# Altium integrated library Infineon_Power_MOSFET.IntLib: 1448 symbols (part 27 of 47)
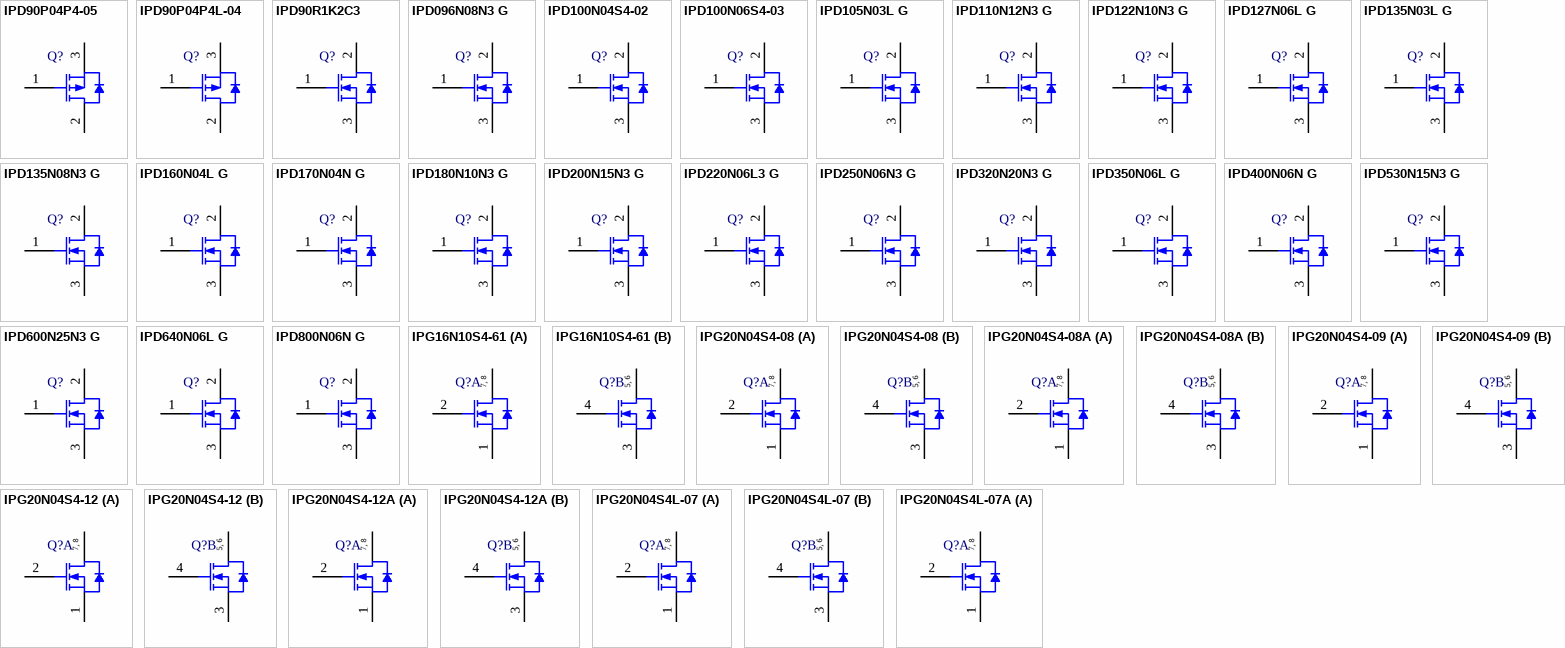
[diagram p63: symbols IPD90P04P4-05 to IPG20N04S4L-07A]

## IPD100N04S4-02
designator Q?
OptiMOS-T2 Power-Transistor, 40 V VDS, 100 A ID, PG-TO252-3-313, Reel, Green; Manufacturer: Infineon; PartNumber: IPD100N04S4-02; Green: TRUE; ID (max): 100 A; IDpuls (max): 400 A; Ptot (max): 150 W; QG: 91 nC; RDS (on) (max) (@10V): 2 mOhm; RthJC (max): 1 K/W; VDS (max): 40 V; VGS(th) (max): 4 V; VGS(th) (min): 2 V; DatasheetVersion: Rev. 1.0; PackageVersion: Oct-10; PackageReference: PG-TO252-3-313; PackageDescription: 3-Pin Plastic (Green) Transistor Single Outline Package, 6.5 x 6.12 mm Body, 2.28 mm Pitch; Supplier 1: Mouser; Supplier Part Number 1: 726-IPD100N04S4-02; Supplier 2: Digi-Key; Supplier Part Number 2: IPD100N04S4-02-ND; Halogen-free: TRUE; Packing: Reel; Technology: OptiMOS-T2; Mounting Technology: Surface Mount; ComponentLink1Description: Manufacturer URL; ComponentLink1URL: http://www.infineon.com/; ComponentLink2Description: Datasheet; ComponentLink2URL: http://www.infineon.com/dgdl/IPD100N04S4-02_DS_1_0.pdf?folderId=db3a304412b407950112b42b75b74520&fileId=db3a304328c6bd5c01291c8301be5e3f&location=en.Products.Automotive_ICs.Automotive_MOSFETs.Single__N-Channel_40V_MOSFETs.DATASHEET.IPD100N04S4-02_DS_1_0.pdf; ComponentLink3Description: Package Specification; ComponentLink3URL: http://www.infineon.com/dgdl/PG-TO252-3-313-Package_Overview.pdf?folderId=db3a30432b57a660012b81890ade72d2&fileId=db3a30432b57a660012b8193af2872eb
footprint INF-PG-TO252-3-313_N (DPAK, 3-Leads, Body 6.5x6.12mm, Pitch 2.28mm, IPC Medium Density)
footprint INF-PG-TO252-3-313_L (DPAK, 3-Leads, Body 6.5x6.12mm, Pitch 2.28mm, IPC High Density)
footprint INF-PG-TO252-3-313_M (DPAK, 3-Leads, Body 6.5x6.12mm, Pitch 2.28mm, IPC Low Density)
pins: 1 GATE, 2 DRAIN, 3 SOURCE

## IPD100N06S4-03
designator Q?
OptiMOS-T2 Power-Transistor, 60 V VDS, 100 A ID, PG-TO252-3-11, Reel, Green; Manufacturer: Infineon; PartNumber: IPD100N06S4-03; Green: TRUE; ID (max): 100 A; IDpuls (max): 400 A; Ptot (max): 150 W; QG: 99 nC; RDS (on) (max) (@10V): 3.5 mOhm; RthJC (max): 1 K/W; VDS (max): 60 V; VGS(th) (max): 4 V; VGS(th) (min): 2 V; DatasheetVersion: Rev. 1.0; PackageVersion: Dec-06; PackageReference: PG-TO252-3-11; PackageDescription: 3-Pin Plastic (Green) Transistor Single Outline Package, 6.5 x 6.12 mm Body, 2.28 mm Pitch; Supplier 1: Mouser; Supplier Part Number 1: 726-IPD100N06S4-03; Supplier 2: Digi-Key; Supplier Part Number 2: IPD100N06S4-03-ND; Halogen-free: TRUE; Packing: Reel; Technology: OptiMOS-T2; Mounting Technology: Surface Mount; ComponentLink1Description: Manufacturer URL; ComponentLink1URL: http://www.infineon.com/; ComponentLink2Description: Datasheet; ComponentLink2URL: http://www.infineon.com/dgdl/IPD100N06S4-03_DS_10.pdf?folderId=db3a30431a5c32f2011a8084a04a6500&fileId=db3a3043271faefd01276222971977a8&location=en.Products.Automotive_ICs.Automotive_MOSFETs.Single__N-Channel_60V_MOSFETs.DATASHEET.IPD100N06S4-03_DS_10.pdf; ComponentLink3Description: Package Specification; ComponentLink3URL: http://www.infineon.com/dgdl/BTS142_DS_13.pdf?folderId=db3a3043163797a6011667aa084c0e01&fileId=db3a3043163797a6011667ac98be0e02&location=en.Products.Automotive_ICs.Smart_High-_and_Low-Side_Switches.HITFET___TEMPFET__-_Smart_Low-Side_Switches.DATASHEET.BTS142_DS_13.pdf
footprint INF-PG-TO252-3-11_N (DPAK, 3-Leads, Body 6.5x6.12mm, Pitch 2.28mm, IPC Medium Density)
footprint INF-PG-TO252-3-11_L (DPAK, 3-Leads, Body 6.5x6.12mm, Pitch 2.28mm, IPC High Density)
footprint INF-PG-TO252-3-11_M (DPAK, 3-Leads, Body 6.5x6.12mm, Pitch 2.28mm, IPC Low Density)
pins: 1 GATE, 2 DRAIN, 3 SOURCE

## IPD105N03L G
designator Q?
N-Channel OptiMOS 3 Power-Transistor, 30 V VDS, 35 A ID, -55 to 175 degC, PG-TO252-3-11, Reel, Green; Manufacturer: Infineon; PartNumber: IPD105N03L G; Green: TRUE; ID (max): 35 A; IDpuls (max): 245 A; Polarity: N; Ptot (max): 38 W; QG: 6.6 nC; RDS (on) (max): 10.5 mOhm; RDS (on) (max) (@4.5V): 15.5 mOhm; Rth: 3.9 K/W; RthJA (max): 75 K/W; VDS (max): 30 V; VGS(th) (max): 2.2 V; VGS(th) (min): 1 V; DatasheetVersion: Rev. 2.1; PackageVersion: Rev. 02, 03/2007; PackageReference: PG-TO252-3-11; PackageDescription: 3-Pin Plastic (Green) Transistor Single Outline Package, 6.57 x 6.1 mm Body, 2.29 mm Pitch; Supplier 1: Digi-Key; Supplier Part Number 1: IPD105N03LGINTR-ND; Supplier 2: Digi-Key; Supplier Part Number 2: IPD105N03LGINCT-ND; Supplier 3: Digi-Key; Supplier Part Number 3: IPD105N03LGINDKR-ND; Halogen-free: TRUE; Packing: Reel; RthJC (max): 3.9 K/W; Mounting Technology: Surface Mount; ComponentLink1Description: Manufacturer URL; ComponentLink1URL: http://www.infineon.com/; ComponentLink2Description: Datasheet; ComponentLink2URL: http://www.infineon.com/dgdl/IPD105N03LG_rev2.1.pdf?folderId=db3a304313b8b5a60113cee8ed2a02db&fileId=db3a3043271faefd0127b84794a33348; ComponentLink3Description: Package Specification; ComponentLink3URL: http://www.infineon.com/dgdl/IPD160N04L_rev1.0.pdf?folderId=db3a3043163797a6011643468e7505a4&fileId=db3a3043163797a60116436401cf05cf
footprint INF-PG-TO252-3-11_A_N (DPAK, 3-Leads, Body 6.57x6.1mm, Pitch 2.29mm, IPC Medium Density)
footprint INF-PG-TO252-3-11_A_L (DPAK, 3-Leads, Body 6.57x6.1mm, Pitch 2.29mm, IPC High Density)
footprint INF-PG-TO252-3-11_A_M (DPAK, 3-Leads, Body 6.57x6.1mm, Pitch 2.29mm, IPC Low Density)
pins: 1 GATE, 2 DRAIN, 3 SOURCE

## IPD110N12N3 G
designator Q?
N-Channel OptiMOS 3 Power-Transistor, 120 V VDS, 75 A ID, -55 to 175 degC, PG-TO252-3-11, Reel, Green; Manufacturer: Infineon; PartNumber: IPD110N12N3 G; Green: TRUE; ID (max): 75 A; IDpuls (max): 300 A; Polarity: N; Ptot (max): 136 W; QG: 49 nC; RDS (on) (max): 11 mOhm; Rth: 1.1 K/W; RthJA (max): 75 K/W; RthJC (max): 1.1 K/W; VDS (max): 120 V; VGS(th) (max): 4 V; VGS(th) (min): 2 V; DatasheetVersion: Rev. 2.2; PackageVersion: Rev. 02, 03/2007; PackageReference: PG-TO252-3-11; PackageDescription: 3-Pin Plastic (Green) Transistor Single Outline Package, 6.57 x 6.1 mm Body, 2.29 mm Pitch; Supplier 1: Mouser; Supplier Part Number 1: 726-IPD110N12N3G; Supplier 2: Newark; Supplier Part Number 2: 47W3469; Supplier 3: Farnell; Supplier Part Number 3: 2212834; Supplier 4: Digi-Key; Supplier Part Number 4: IPD110N12N3 GTR-ND; Supplier 5: Digi-Key; Supplier Part Number 5: IPD110N12N3 GCT-ND; Supplier 6: Digi-Key; Supplier Part Number 6: IPD110N12N3 GDKR-ND; Packing: Reel; Mounting Technology: Surface Mount; ComponentLink1Description: Manufacturer URL; ComponentLink1URL: http://www.infineon.com/; ComponentLink2Description: Datasheet; ComponentLink2URL: http://www.infineon.com/dgdl/IPD_S110N12N3+G_Rev2.2.pdf?folderId=db3a304313b8b5a60113cee8763b02d7&fileId=db3a30432239cccd0122a7a49e2b7d1d; ComponentLink3Description: Package Specification; ComponentLink3URL: http://www.infineon.com/dgdl/IPD160N04L_rev1.0.pdf?folderId=db3a3043163797a6011643468e7505a4&fileId=db3a3043163797a60116436401cf05cf
footprint INF-PG-TO252-3-11_A_N (DPAK, 3-Leads, Body 6.57x6.1mm, Pitch 2.29mm, IPC Medium Density)
footprint INF-PG-TO252-3-11_A_L (DPAK, 3-Leads, Body 6.57x6.1mm, Pitch 2.29mm, IPC High Density)
footprint INF-PG-TO252-3-11_A_M (DPAK, 3-Leads, Body 6.57x6.1mm, Pitch 2.29mm, IPC Low Density)
pins: 1 GATE, 2 DRAIN, 3 SOURCE

## IPD122N10N3 G
designator Q?
N-Channel OptiMOS 3 Power-Transistor, 100 V VDS, 59 A ID, -55 to 175 degC, PG-TO252-3-11, Reel, Green; Manufacturer: Infineon; PartNumber: IPD122N10N3 G; Green: TRUE; ID (max): 59 A; IDpuls (max): 236 A; Polarity: N; Ptot (max): 94 W; QG: 26 nC; RDS (on) (max): 12.2 mOhm; Rth: 1.6 K/W; RthJA (max): 75 K/W; VDS (max): 100 V; VGS(th) (max): 3.5 V; VGS(th) (min): 2 V; DatasheetVersion: Rev. 2.2; PackageVersion: Rev. 02, 03/2007; PackageReference: PG-TO252-3-11; PackageDescription: 3-Pin Plastic (Green) Transistor Single Outline Package, 6.57 x 6.1 mm Body, 2.29 mm Pitch; Supplier 1: Mouser; Supplier Part Number 1: 726-IPD122N10N3G; Supplier 2: Digi-Key; Supplier Part Number 2: IPD122N10N3 GTR-ND; Supplier 3: Digi-Key; Supplier Part Number 3: IPD122N10N3 GCT-ND; Supplier 4: Digi-Key; Supplier Part Number 4: IPD122N10N3 GDKR-ND; Packing: Reel; RthJC (max): 1.6 K/W; Mounting Technology: Surface Mount; ComponentLink1Description: Manufacturer URL; ComponentLink1URL: http://www.infineon.com/; ComponentLink2Description: Datasheet; ComponentLink2URL: http://www.infineon.com/dgdl/IPD122N10N3+G_Rev2.2.pdf?folderId=db3a304313b8b5a60113cee8763b02d7&fileId=db3a30432239cccd0122604a0b2e7f65; ComponentLink3Description: Package Specification; ComponentLink3URL: http://www.infineon.com/dgdl/IPD160N04L_rev1.0.pdf?folderId=db3a3043163797a6011643468e7505a4&fileId=db3a3043163797a60116436401cf05cf
footprint INF-PG-TO252-3-11_A_N (DPAK, 3-Leads, Body 6.57x6.1mm, Pitch 2.29mm, IPC Medium Density)
footprint INF-PG-TO252-3-11_A_L (DPAK, 3-Leads, Body 6.57x6.1mm, Pitch 2.29mm, IPC High Density)
footprint INF-PG-TO252-3-11_A_M (DPAK, 3-Leads, Body 6.57x6.1mm, Pitch 2.29mm, IPC Low Density)
pins: 1 GATE, 2 DRAIN, 3 SOURCE

## IPD127N06L G
designator Q?
N-Channel OptiMOS Power-Transistor, 60 V VDS, 50 A ID, -55 to 175 degC, PG-TO252-3-11, Reel, Green; Manufacturer: Infineon; PartNumber: IPD127N06L G; Green: TRUE; ID (max): 50 A; IDpuls (max): 200 A; Polarity: N; Ptot (max): 136 W; QG: 52 nC; RDS (on) (max): 12.7 mOhm; Rth: 1.1 K/W; RthJA (max): 75 K/W; VDS (max): 60 V; VGS(th) (max): 2 V; VGS(th) (min): 1.2 V; DatasheetVersion: Rev. 1.2; PackageVersion: Rev. 02, 03/2007; PackageReference: PG-TO252-3-11; PackageDescription: 3-Pin Plastic (Green) Transistor Single Outline Package, 6.57 x 6.1 mm Body, 2.29 mm Pitch; Supplier 1: Digi-Key; Supplier Part Number 1: IPD127N06LGINTR-ND; Supplier 2: Digi-Key; Supplier Part Number 2: IPD127N06LGINCT-ND; Supplier 3: Digi-Key; Supplier Part Number 3: IPD127N06LGINDKR-ND; Packing: Reel; RthJC (max): 1.1 K/W; Mounting Technology: Surface Mount; ComponentLink1Description: Manufacturer URL; ComponentLink1URL: http://www.infineon.com/; ComponentLink2Description: Datasheet; ComponentLink2URL: http://www.infineon.com/dgdl/IPD127N06LG%2BRev1.2.pdf?folderId=db3a30431a5c32f2011a809773886508&fileId=db3a30431f848401011fc786d4077a24; ComponentLink3Description: Package Specification; ComponentLink3URL: http://www.infineon.com/dgdl/IPD160N04L_rev1.0.pdf?folderId=db3a3043163797a6011643468e7505a4&fileId=db3a3043163797a60116436401cf05cf
footprint INF-PG-TO252-3-11_A_N (DPAK, 3-Leads, Body 6.57x6.1mm, Pitch 2.29mm, IPC Medium Density)
footprint INF-PG-TO252-3-11_A_L (DPAK, 3-Leads, Body 6.57x6.1mm, Pitch 2.29mm, IPC High Density)
footprint INF-PG-TO252-3-11_A_M (DPAK, 3-Leads, Body 6.57x6.1mm, Pitch 2.29mm, IPC Low Density)
pins: 1 GATE, 2 DRAIN, 3 SOURCE

## IPD135N03L G
designator Q?
N-Channel OptiMOS 3 Power-Transistor, 30 V VDS, 30 A ID, -55 to 175 degC, PG-TO252-3-11, Reel, Green; Manufacturer: Infineon; PartNumber: IPD135N03L G; Green: TRUE; ID (max): 30 A; IDpuls (max): 210 A; Polarity: N; Ptot (max): 31 W; QG: 4.8 nC; RDS (on) (max): 13.5 mOhm; RDS (on) (max) (@4.5V): 20.5 mOhm; Rth: 4.9 K/W; RthJA (max): 75 K/W; VDS (max): 30 V; VGS(th) (max): 2.2 V; VGS(th) (min): 1 V; DatasheetVersion: Rev. 2.1; PackageVersion: Rev. 02, 03/2007; PackageReference: PG-TO252-3-11; PackageDescription: 3-Pin Plastic (Green) Transistor Single Outline Package, 6.57 x 6.1 mm Body, 2.29 mm Pitch; Supplier 1: Newark; Supplier Part Number 1: 60R2700; Supplier 2: Farnell; Supplier Part Number 2: 1775582; Supplier 3: Digi-Key; Supplier Part Number 3: IPD135N03L GTR-ND; Supplier 4: Digi-Key; Supplier Part Number 4: IPD135N03L GCT-ND; Supplier 5: Digi-Key; Supplier Part Number 5: IPD135N03L GDKR-ND; Halogen-free: TRUE; Packing: Reel; RthJC (max): 4.9 K/W; Mounting Technology: Surface Mount; ComponentLink1Description: Manufacturer URL; ComponentLink1URL: http://www.infineon.com/; ComponentLink2Description: Datasheet; ComponentLink2URL: http://www.infineon.com/dgdl/IPD135N03LG_rev2.1.pdf?folderId=db3a304313b8b5a60113cee8ed2a02db&fileId=db3a304327b897500127b8b9540f0003; ComponentLink3Description: Package Specification; ComponentLink3URL: http://www.infineon.com/dgdl/IPD160N04L_rev1.0.pdf?folderId=db3a3043163797a6011643468e7505a4&fileId=db3a3043163797a60116436401cf05cf
footprint INF-PG-TO252-3-11_A_N (DPAK, 3-Leads, Body 6.57x6.1mm, Pitch 2.29mm, IPC Medium Density)
footprint INF-PG-TO252-3-11_A_L (DPAK, 3-Leads, Body 6.57x6.1mm, Pitch 2.29mm, IPC High Density)
footprint INF-PG-TO252-3-11_A_M (DPAK, 3-Leads, Body 6.57x6.1mm, Pitch 2.29mm, IPC Low Density)
pins: 1 GATE, 2 DRAIN, 3 SOURCE

## IPD135N08N3 G
designator Q?
N-Channel OptiMOS 3 Power-Transistor, 80 V VDS, 45 A ID, -55 to 175 degC, PG-TO252-3-11, Reel, Green; Manufacturer: Infineon; PartNumber: IPD135N08N3 G; Green: TRUE; ID (max): 45 A; IDpuls (max): 180 A; Polarity: N; Ptot (max): 79 W; QG: 19 nC; RDS (on) (max): 13.5 mOhm; Rth: 1.9 K/W; RthJA (max): 62 K/W; VDS (max): 80 V; VGS(th) (max): 3.5 V; VGS(th) (min): 2 V; DatasheetVersion: Rev. 2.1; PackageVersion: Rev. 02, 03/2007; PackageReference: PG-TO252-3-11; PackageDescription: 3-Pin Plastic (Green) Transistor Single Outline Package, 6.57 x 6.1 mm Body, 2.29 mm Pitch; Supplier 1: Mouser; Supplier Part Number 1: 726-IPD135N08N3G; Supplier 2: Digi-Key; Supplier Part Number 2: IPD135N08N3 G-ND; Packing: Reel; RthJC (max): 1.9 K/W; Mounting Technology: Surface Mount; ComponentLink1Description: Manufacturer URL; ComponentLink1URL: http://www.infineon.com/; ComponentLink2Description: Datasheet; ComponentLink2URL: http://www.infineon.com/dgdl/IPD135N08N3_Rev2.1.pdf?folderId=db3a304313b8b5a60113cee8763b02d7&fileId=db3a30431add1d95011ae8b1143256d4; ComponentLink3Description: Package Specification; ComponentLink3URL: http://www.infineon.com/dgdl/IPD160N04L_rev1.0.pdf?folderId=db3a3043163797a6011643468e7505a4&fileId=db3a3043163797a60116436401cf05cf
footprint INF-PG-TO252-3-11_A_N (DPAK, 3-Leads, Body 6.57x6.1mm, Pitch 2.29mm, IPC Medium Density)
footprint INF-PG-TO252-3-11_A_L (DPAK, 3-Leads, Body 6.57x6.1mm, Pitch 2.29mm, IPC High Density)
footprint INF-PG-TO252-3-11_A_M (DPAK, 3-Leads, Body 6.57x6.1mm, Pitch 2.29mm, IPC Low Density)
pins: 1 GATE, 2 DRAIN, 3 SOURCE

## IPD160N04L G
designator Q?
N-Channel OptiMOS 3 Power-Transistor, 40 V VDS, 30 A ID, -55 to 175 degC, PG-TO252-3-11, Reel, Green; Manufacturer: Infineon; PartNumber: IPD160N04L G; Green: TRUE; ID (max): 30 A; IDpuls (max): 210 A; Polarity: N; Ptot (max): 31 W; QG: 11 nC; RDS (on) (max): 16 mOhm; RDS (on) (max) (@4.5V): 23 mOhm; Rth: 4.9 K/W; RthJA (max): 75 K/W; VDS (max): 40 V; VGS(th) (max): 2 V; VGS(th) (min): 1.2 V; DatasheetVersion: Rev. 1.0; PackageVersion: Rev. 02, 03/2007; PackageReference: PG-TO252-3-11; PackageDescription: 3-Pin Plastic (Green) Transistor Single Outline Package, 6.57 x 6.1 mm Body, 2.29 mm Pitch; Supplier 1: Mouser; Supplier Part Number 1: 726-IPD160N04LG; Supplier 2: Newark; Supplier Part Number 2: 60R2702; Supplier 3: Farnell; Supplier Part Number 3: 1775584; Supplier 4: Digi-Key; Supplier Part Number 4: IPD160N04L G-ND; Packing: Reel; RthJC (max): 4.9 K/W; Mounting Technology: Surface Mount; ComponentLink1Description: Manufacturer URL; ComponentLink1URL: http://www.infineon.com/; ComponentLink2Description: Datasheet; ComponentLink2URL: http://www.infineon.com/dgdl/IPD160N04L_rev1.pdf?folderId=db3a3043163797a6011643468e7505a4&fileId=db3a3043163797a60116436401cf05cf; ComponentLink3Description: Package Specification; ComponentLink3URL: http://www.infineon.com/dgdl/IPD160N04L_rev1.0.pdf?folderId=db3a3043163797a6011643468e7505a4&fileId=db3a3043163797a60116436401cf05cf
footprint INF-PG-TO252-3-11_A_N (DPAK, 3-Leads, Body 6.57x6.1mm, Pitch 2.29mm, IPC Medium Density)
footprint INF-PG-TO252-3-11_A_L (DPAK, 3-Leads, Body 6.57x6.1mm, Pitch 2.29mm, IPC High Density)
footprint INF-PG-TO252-3-11_A_M (DPAK, 3-Leads, Body 6.57x6.1mm, Pitch 2.29mm, IPC Low Density)
pins: 1 GATE, 2 DRAIN, 3 SOURCE

## IPD170N04N G
designator Q?
N-Channel OptiMOS 3 Power-Transistor, 40 V VDS, 30 A ID, -55 to 175 degC, PG-TO252-3-11, Reel, Green; Manufacturer: Infineon; PartNumber: IPD170N04N G; Green: TRUE; ID (max): 30 A; IDpuls (max): 210 A; Polarity: N; Ptot (max): 31 W; QG: 7.9 nC; RDS (on) (max): 17 mOhm; Rth: 4.9 K/W; RthJA (max): 75 K/W; VDS (max): 40 V; VGS(th) (max): 4 V; VGS(th) (min): 2 V; DatasheetVersion: Rev. 1.0; PackageVersion: Rev. 02, 03/2007; PackageReference: PG-TO252-3-11; PackageDescription: 3-Pin Plastic (Green) Transistor Single Outline Package, 6.57 x 6.1 mm Body, 2.29 mm Pitch; Supplier 1: Farnell; Supplier Part Number 1: 1775586; Supplier 2: Digi-Key; Supplier Part Number 2: IPD170N04N G-ND; Packing: Reel; RthJC (max): 4.9 K/W; Mounting Technology: Surface Mount; ComponentLink1Description: Manufacturer URL; ComponentLink1URL: http://www.infineon.com/; ComponentLink2Description: Datasheet; ComponentLink2URL: http://www.infineon.com/dgdl/IPD170N04N_rev1.pdf?folderId=db3a3043163797a6011643468e7505a4&fileId=db3a3043163797a601164367820f05dd; ComponentLink3Description: Package Specification; ComponentLink3URL: http://www.infineon.com/dgdl/IPD160N04L_rev1.0.pdf?folderId=db3a3043163797a6011643468e7505a4&fileId=db3a3043163797a60116436401cf05cf
footprint INF-PG-TO252-3-11_A_N (DPAK, 3-Leads, Body 6.57x6.1mm, Pitch 2.29mm, IPC Medium Density)
footprint INF-PG-TO252-3-11_A_L (DPAK, 3-Leads, Body 6.57x6.1mm, Pitch 2.29mm, IPC High Density)
footprint INF-PG-TO252-3-11_A_M (DPAK, 3-Leads, Body 6.57x6.1mm, Pitch 2.29mm, IPC Low Density)
pins: 1 GATE, 2 DRAIN, 3 SOURCE

## IPD180N10N3 G
designator Q?
N-Channel OptiMOS 3 Power-Transistor, 100 V VDS, 43 A ID, -55 to 175 degC, PG-TO252-3-11, Reel, Green; Manufacturer: Infineon; PartNumber: IPD180N10N3 G; Green: TRUE; ID (max): 43 A; IDpuls (max): 172 A; Polarity: N; Ptot (max): 71 W; QG: 19 nC; RDS (on) (max): 18 mOhm; Rth: 2.1 K/W; RthJA (max): 75 K/W; VDS (max): 100 V; VGS(th) (max): 3.5 V; VGS(th) (min): 2 V; DatasheetVersion: Rev. 2.2; PackageVersion: Rev. 02, 03/2007; PackageReference: PG-TO252-3-11; PackageDescription: 3-Pin Plastic (Green) Transistor Single Outline Package, 6.57 x 6.1 mm Body, 2.29 mm Pitch; Supplier 1: Digi-Key; Supplier Part Number 1: IPD180N10N3 GTR-ND; Supplier 2: Digi-Key; Supplier Part Number 2: IPD180N10N3 GCT-ND; Supplier 3: Digi-Key; Supplier Part Number 3: IPD180N10N3 GDKR-ND; Packing: Reel; RthJC (max): 2.1 K/W; Mounting Technology: Surface Mount; ComponentLink1Description: Manufacturer URL; ComponentLink1URL: http://www.infineon.com/; ComponentLink2Description: Datasheet; ComponentLink2URL: http://www.infineon.com/dgdl/IPD180N10N3+G_Rev2.2.pdf?folderId=db3a304313b8b5a60113cee8763b02d7&fileId=db3a30432239cccd01226070a4bb7fb9; ComponentLink3Description: Package Specification; ComponentLink3URL: http://www.infineon.com/dgdl/IPD160N04L_rev1.0.pdf?folderId=db3a3043163797a6011643468e7505a4&fileId=db3a3043163797a60116436401cf05cf
footprint INF-PG-TO252-3-11_A_N (DPAK, 3-Leads, Body 6.57x6.1mm, Pitch 2.29mm, IPC Medium Density)
footprint INF-PG-TO252-3-11_A_L (DPAK, 3-Leads, Body 6.57x6.1mm, Pitch 2.29mm, IPC High Density)
footprint INF-PG-TO252-3-11_A_M (DPAK, 3-Leads, Body 6.57x6.1mm, Pitch 2.29mm, IPC Low Density)
pins: 1 GATE, 2 DRAIN, 3 SOURCE

## IPD200N15N3 G
designator Q?
N-Channel OptiMOS 3 Power-Transistor, 150 V VDS, 50 A ID, -55 to 175 degC, PG-TO252-3-11, Reel, Green; Manufacturer: Infineon; PartNumber: IPD200N15N3 G; Green: TRUE; ID (max): 50 A; IDpuls (max): 200 A; Polarity: N; Ptot (max): 150 W; QG: 23 nC; RDS (on) (max): 20 mOhm; Rth: 1 K/W; RthJA (max): 75 K/W; VDS (max): 150 V; VGS(th) (max): 4 V; VGS(th) (min): 2 V; DatasheetVersion: Rev. 2.05; PackageVersion: Rev. 02, 03/2007; PackageReference: PG-TO252-3-11; PackageDescription: 3-Pin Plastic (Green) Transistor Single Outline Package, 6.57 x 6.1 mm Body, 2.29 mm Pitch; Supplier 1: Mouser; Supplier Part Number 1: 726-IPD200N15N3G; Supplier 2: Newark; Supplier Part Number 2: 60R2704; Supplier 3: Farnell; Supplier Part Number 3: 1775587; Supplier 4: Digi-Key; Supplier Part Number 4: IPD200N15N3 GTR-ND; Supplier 5: Digi-Key; Supplier Part Number 5: IPD200N15N3 GCT-ND; Supplier 6: Digi-Key; Supplier Part Number 6: IPD200N15N3 GDKR-ND; Packing: Reel; RthJC (max): 1 K/W; Mounting Technology: Surface Mount; ComponentLink1Description: Manufacturer URL; ComponentLink1URL: http://www.infineon.com/; ComponentLink2Description: Datasheet; ComponentLink2URL: http://www.infineon.com/dgdl/IPD200N15N3_Rev25.pdf?folderId=db3a304313b8b5a60113cee7c66a02d6&fileId=db3a304319c6f18c0119cd1cc23279be; ComponentLink3Description: Package Specification; ComponentLink3URL: http://www.infineon.com/dgdl/IPD160N04L_rev1.0.pdf?folderId=db3a3043163797a6011643468e7505a4&fileId=db3a3043163797a60116436401cf05cf
footprint INF-PG-TO252-3-11_A_N (DPAK, 3-Leads, Body 6.57x6.1mm, Pitch 2.29mm, IPC Medium Density)
footprint INF-PG-TO252-3-11_A_L (DPAK, 3-Leads, Body 6.57x6.1mm, Pitch 2.29mm, IPC High Density)
footprint INF-PG-TO252-3-11_A_M (DPAK, 3-Leads, Body 6.57x6.1mm, Pitch 2.29mm, IPC Low Density)
pins: 1 GATE, 2 DRAIN, 3 SOURCE

## IPD220N06L3 G
designator Q?
N-Channel OptiMOS 3 Power-Transistor, 60 V VDS, 30 A ID, -55 to 175 degC, PG-TO252-3-11, Reel, Green; Manufacturer: Infineon; PartNumber: IPD220N06L3 G; Green: TRUE; ID (max): 30 A; IDpuls (max): 120 A; Polarity: N; Ptot (max): 36 W; QG: 7 nC; RDS (on) (max): 22 mOhm; RDS (on) (max) (@4.5V): 39.8 mOhm; Rth: 4.2 K/W; RthJA (max): 62 K/W; RthJC (max): 4.2 K/W; VDS (max): 60 V; VGS(th) (max): 2.2 V; VGS(th) (min): 1.2 V; DatasheetVersion: Rev. 2.0; PackageVersion: Rev. 02, 03/2007; PackageReference: PG-TO252-3-11; PackageDescription: 3-Pin Plastic (Green) Transistor Single Outline Package, 6.57 x 6.1 mm Body, 2.29 mm Pitch; Supplier 1: Mouser; Supplier Part Number 1: 726-IPD220N06L3G; Supplier 2: Digi-Key; Supplier Part Number 2: IPD220N06L3 G-ND; Packing: Reel; Mounting Technology: Surface Mount; ComponentLink1Description: Manufacturer URL; ComponentLink1URL: http://www.infineon.com/; ComponentLink2Description: Datasheet; ComponentLink2URL: http://www.infineon.com/dgdl/IPD220N06L3_Rev2.pdf?folderId=db3a30431441fb5d01148ca9f1be0e77&fileId=db3a30431ddc9372011e266fb35e471a; ComponentLink3Description: Package Specification; ComponentLink3URL: http://www.infineon.com/dgdl/IPD160N04L_rev1.0.pdf?folderId=db3a3043163797a6011643468e7505a4&fileId=db3a3043163797a60116436401cf05cf
footprint INF-PG-TO252-3-11_A_N (DPAK, 3-Leads, Body 6.57x6.1mm, Pitch 2.29mm, IPC Medium Density)
footprint INF-PG-TO252-3-11_A_L (DPAK, 3-Leads, Body 6.57x6.1mm, Pitch 2.29mm, IPC High Density)
footprint INF-PG-TO252-3-11_A_M (DPAK, 3-Leads, Body 6.57x6.1mm, Pitch 2.29mm, IPC Low Density)
pins: 1 GATE, 2 DRAIN, 3 SOURCE

## IPD250N06N3 G
designator Q?
N-Channel OptiMOS 3 Power-Transistor, 60 V VDS, 28 A ID, -55 to 175 degC, PG-TO252-3-11, Reel, Green; Manufacturer: Infineon; PartNumber: IPD250N06N3 G; Green: TRUE; ID (max): 28 A; IDpuls (max): 112 A; Polarity: N; Ptot (max): 36 W; QG: 11 nC; RDS (on) (max): 25 mOhm; Rth: 4.2 K/W; RthJA (max): 75 K/W; VDS (max): 60 V; VGS(th) (max): 4 V; VGS(th) (min): 2 V; DatasheetVersion: Rev. 2.0; PackageVersion: Rev. 02, 03/2007; PackageReference: PG-TO252-3-11; PackageDescription: 3-Pin Plastic (Green) Transistor Single Outline Package, 6.57 x 6.1 mm Body, 2.29 mm Pitch; Supplier 1: Digi-Key; Supplier Part Number 1: IPD250N06N3 GTR-ND; Supplier 2: Digi-Key; Supplier Part Number 2: IPD250N06N3 GCT-ND; Supplier 3: Digi-Key; Supplier Part Number 3: IPD250N06N3 GDKR-ND; Packing: Reel; RthJC (max): 4.2 K/W; Mounting Technology: Surface Mount; ComponentLink1Description: Manufacturer URL; ComponentLink1URL: http://www.infineon.com/; ComponentLink2Description: Datasheet; ComponentLink2URL: http://www.infineon.com/dgdl/IPD250N06N3_Rev2.pdf?folderId=db3a30431441fb5d01148ca9f1be0e77&fileId=db3a30431ddc9372011e268ceca1474f; ComponentLink3Description: Package Specification; ComponentLink3URL: http://www.infineon.com/dgdl/IPD160N04L_rev1.0.pdf?folderId=db3a3043163797a6011643468e7505a4&fileId=db3a3043163797a60116436401cf05cf
footprint INF-PG-TO252-3-11_A_N (DPAK, 3-Leads, Body 6.57x6.1mm, Pitch 2.29mm, IPC Medium Density)
footprint INF-PG-TO252-3-11_A_L (DPAK, 3-Leads, Body 6.57x6.1mm, Pitch 2.29mm, IPC High Density)
footprint INF-PG-TO252-3-11_A_M (DPAK, 3-Leads, Body 6.57x6.1mm, Pitch 2.29mm, IPC Low Density)
pins: 1 GATE, 2 DRAIN, 3 SOURCE

## IPD320N20N3 G
designator Q?
N-Channel OptiMOS 3 Power-Transistor, 200 V VDS, 34 A ID, -55 to 175 degC, PG-TO252-3-11, Reel, Green; Manufacturer: Infineon; PartNumber: IPD320N20N3 G; Green: TRUE; ID (max): 34 A; IDpuls (max): 136 A; Polarity: N; Ptot (max): 136 W; QG: 22 nC; RDS (on) (max): 32 mOhm; Rth: 1.1 K/W; RthJA (max): 75 K/W; VDS (max): 200 V; VGS(th) (max): 4 V; VGS(th) (min): 2 V; DatasheetVersion: Rev. 2.3; PackageVersion: Rev. 02, 03/2007; PackageReference: PG-TO252-3-11; PackageDescription: 3-Pin Plastic (Green) Transistor Single Outline Package, 6.57 x 6.1 mm Body, 2.29 mm Pitch; Supplier 1: Mouser; Supplier Part Number 1: 726-IPD320N20N3G; Supplier 2: Newark; Supplier Part Number 2: 47W3471; Supplier 3: Farnell; Supplier Part Number 3: 2212824; Supplier 4: Digi-Key; Supplier Part Number 4: IPD320N20N3 GTR-ND; Supplier 5: Digi-Key; Supplier Part Number 5: IPD320N20N3 GCT-ND; Supplier 6: Digi-Key; Supplier Part Number 6: IPD320N20N3 GDKR-ND; Packing: Reel; RthJC (max): 1.1 K/W; Mounting Technology: Surface Mount; ComponentLink1Description: Manufacturer URL; ComponentLink1URL: http://www.infineon.com/; ComponentLink2Description: Datasheet; ComponentLink2URL: http://www.infineon.com/dgdl/IPD320N20N3+G+Rev2.3.pdf?folderId=db3a3043163797a6011637d4bae7003b&fileId=db3a3043243b5f1701249669796017f3; ComponentLink3Description: Package Specification; ComponentLink3URL: http://www.infineon.com/dgdl/IPD160N04L_rev1.0.pdf?folderId=db3a3043163797a6011643468e7505a4&fileId=db3a3043163797a60116436401cf05cf
footprint INF-PG-TO252-3-11_A_N (DPAK, 3-Leads, Body 6.57x6.1mm, Pitch 2.29mm, IPC Medium Density)
footprint INF-PG-TO252-3-11_A_L (DPAK, 3-Leads, Body 6.57x6.1mm, Pitch 2.29mm, IPC High Density)
footprint INF-PG-TO252-3-11_A_M (DPAK, 3-Leads, Body 6.57x6.1mm, Pitch 2.29mm, IPC Low Density)
pins: 1 GATE, 2 DRAIN, 3 SOURCE

## IPD350N06L G
designator Q?
N-Channel OptiMOS Power-Transistor, 60 V VDS, 29 A ID, -55 to 175 degC, PG-TO252-3-11, Reel, Green; Manufacturer: Infineon; PartNumber: IPD350N06L G; Green: TRUE; ID (max): 29 A; IDpuls (max): 116 A; Polarity: N; Ptot (max): 68 W; QG: 10 nC; RDS (on) (max): 35 mOhm; RDS (on) (max) (@4.5V): 47 mOhm; Rth: 2.2 K/W; RthJA (max): 75 K/W; VDS (max): 60 V; VGS(th) (max): 2 V; VGS(th) (min): 1.2 V; DatasheetVersion: Rev. 1.3; PackageVersion: Rev. 02, 03/2007; PackageReference: PG-TO252-3-11; PackageDescription: 3-Pin Plastic (Green) Transistor Single Outline Package, 6.57 x 6.1 mm Body, 2.29 mm Pitch; Supplier 1: Mouser; Supplier Part Number 1: 726-IPD350N06LG; Supplier 2: Digi-Key; Supplier Part Number 2: IPD350N06L G-ND; Packing: Reel; RthJC (max): 2.2 K/W; Mounting Technology: Surface Mount; ComponentLink1Description: Manufacturer URL; ComponentLink1URL: http://www.infineon.com/; ComponentLink2Description: Datasheet; ComponentLink2URL: http://www.infineon.com/dgdl/IPD350N06L+G++Rev1.3.pdf?folderId=db3a304313b8b5a60113cee8763b02d7&fileId=db3a30431be39b97011c320778777982; ComponentLink3Description: Package Specification; ComponentLink3URL: http://www.infineon.com/dgdl/IPD160N04L_rev1.0.pdf?folderId=db3a3043163797a6011643468e7505a4&fileId=db3a3043163797a60116436401cf05cf
footprint INF-PG-TO252-3-11_A_N (DPAK, 3-Leads, Body 6.57x6.1mm, Pitch 2.29mm, IPC Medium Density)
footprint INF-PG-TO252-3-11_A_L (DPAK, 3-Leads, Body 6.57x6.1mm, Pitch 2.29mm, IPC High Density)
footprint INF-PG-TO252-3-11_A_M (DPAK, 3-Leads, Body 6.57x6.1mm, Pitch 2.29mm, IPC Low Density)
pins: 1 GATE, 2 DRAIN, 3 SOURCE

## IPD400N06N G
designator Q?
N-Channel OptiMOS Power-Transistor, 60 V VDS, 27 A ID, -55 to 175 degC, PG-TO252-3-11, Reel, Green; Manufacturer: Infineon; PartNumber: IPD400N06N G; Green: TRUE; ID (max): 27 A; IDpuls (max): 108 A; Polarity: N; Ptot (max): 68 W; QG: 13 nC; RDS (on) (max): 40 mOhm; Rth: 2.2 K/W; RthJA (max): 75 K/W; VDS (max): 60 V; VGS(th) (max): 4 V; VGS(th) (min): 2 V; DatasheetVersion: Rev. 1.3; PackageVersion: Rev. 02, 03/2007; PackageReference: PG-TO252-3-11; PackageDescription: 3-Pin Plastic (Green) Transistor Single Outline Package, 6.57 x 6.1 mm Body, 2.29 mm Pitch; Supplier 1: Mouser; Supplier Part Number 1: 726-IPD400N06NG; Supplier 2: Digi-Key; Supplier Part Number 2: IPD400N06NGINTR-ND; Supplier 3: Digi-Key; Supplier Part Number 3: IPD400N06NGINCT-ND; Supplier 4: Digi-Key; Supplier Part Number 4: IPD400N06NGINDKR-ND; Packing: Reel; RthJC (max): 2.2 K/W; Mounting Technology: Surface Mount; ComponentLink1Description: Manufacturer URL; ComponentLink1URL: http://www.infineon.com/; ComponentLink2Description: Datasheet; ComponentLink2URL: http://www.infineon.com/dgdl/IPD400N06N+G+Rev1.3.pdf?folderId=db3a304313b8b5a60113cee8763b02d7&fileId=db3a30431be39b97011c31db9a4f795c; ComponentLink3Description: Package Specification; ComponentLink3URL: http://www.infineon.com/dgdl/IPD160N04L_rev1.0.pdf?folderId=db3a3043163797a6011643468e7505a4&fileId=db3a3043163797a60116436401cf05cf
footprint INF-PG-TO252-3-11_A_N (DPAK, 3-Leads, Body 6.57x6.1mm, Pitch 2.29mm, IPC Medium Density)
footprint INF-PG-TO252-3-11_A_L (DPAK, 3-Leads, Body 6.57x6.1mm, Pitch 2.29mm, IPC High Density)
footprint INF-PG-TO252-3-11_A_M (DPAK, 3-Leads, Body 6.57x6.1mm, Pitch 2.29mm, IPC Low Density)
pins: 1 GATE, 2 DRAIN, 3 SOURCE

## IPD530N15N3 G
designator Q?
N-Channel OptiMOS 3 Power-Transistor, 150 V VDS, 21 A ID, -55 to 175 degC, PG-TO252-3-11, Reel, Green; Manufacturer: Infineon; PartNumber: IPD530N15N3 G; Green: TRUE; ID (max): 21 A; IDpuls (max): 84 A; Polarity: N; Ptot (max): 68 W; QG: 8.7 nC; RDS (on) (max): 53 mOhm; Rth: 2.2 K/W; RthJA (max): 62 K/W; VDS (max): 150 V; VGS(th) (max): 4 V; VGS(th) (min): 2 V; DatasheetVersion: Rev. 2.5; PackageVersion: Rev. 02, 03/2007; PackageReference: PG-TO252-3-11; PackageDescription: 3-Pin Plastic (Green) Transistor Single Outline Package, 6.57 x 6.1 mm Body, 2.29 mm Pitch; Supplier 1: Mouser; Supplier Part Number 1: 726-IPD530N15N3G; Supplier 2: Newark; Supplier Part Number 2: 79X1437; Supplier 3: Farnell; Supplier Part Number 3: 2432730; Supplier 4: Digi-Key; Supplier Part Number 4: IPD530N15N3 GTR-ND; Supplier 5: Digi-Key; Supplier Part Number 5: IPD530N15N3 GCT-ND; Supplier 6: Digi-Key; Supplier Part Number 6: IPD530N15N3 GDKR-ND; Packing: Reel; RthJC (max): 2.2 K/W; Mounting Technology: Surface Mount; ComponentLink1Description: Manufacturer URL; ComponentLink1URL: http://www.infineon.com/; ComponentLink2Description: Datasheet; ComponentLink2URL: http://www.infineon.com/dgdl/IPD530N15N3_Rev2.5.pdf?folderId=db3a304326623792012669f6bee2224b&fileId=db3a30432662379201266a1f6dd2227c; ComponentLink3Description: Package Specification; ComponentLink3URL: http://www.infineon.com/dgdl/IPD160N04L_rev1.0.pdf?folderId=db3a3043163797a6011643468e7505a4&fileId=db3a3043163797a60116436401cf05cf
footprint INF-PG-TO252-3-11_A_N (DPAK, 3-Leads, Body 6.57x6.1mm, Pitch 2.29mm, IPC Medium Density)
footprint INF-PG-TO252-3-11_A_L (DPAK, 3-Leads, Body 6.57x6.1mm, Pitch 2.29mm, IPC High Density)
footprint INF-PG-TO252-3-11_A_M (DPAK, 3-Leads, Body 6.57x6.1mm, Pitch 2.29mm, IPC Low Density)
pins: 1 GATE, 2 DRAIN, 3 SOURCE

## IPD600N25N3 G
designator Q?
N-Channel OptiMOS 3 Power-Transistor, 250 V VDS, 25 A ID, -55 to 175 degC, PG-TO252-3-11, Reel, Green; Manufacturer: Infineon; PartNumber: IPD600N25N3 G; Green: TRUE; ID (max): 25 A; IDpuls (max): 100 A; Polarity: N; Ptot (max): 136 W; QG: 22 nC; RDS (on) (max): 60 mOhm; Rth: 1.1 K/W; RthJA (max): 75 K/W; VDS (max): 250 V; VGS(th) (max): 4 V; VGS(th) (min): 2 V; DatasheetVersion: Rev. 2.3; PackageVersion: Rev. 02, 03/2007; PackageReference: PG-TO252-3-11; PackageDescription: 3-Pin Plastic (Green) Transistor Single Outline Package, 6.57 x 6.1 mm Body, 2.29 mm Pitch; Supplier 1: Mouser; Supplier Part Number 1: 726-IPD600N25N3G; Supplier 2: Newark; Supplier Part Number 2: 47W3474; Supplier 3: Farnell; Supplier Part Number 3: 2212828; Supplier 4: Digi-Key; Supplier Part Number 4: IPD600N25N3 GTR-ND; Supplier 5: Digi-Key; Supplier Part Number 5: IPD600N25N3 GCT-ND; Supplier 6: Digi-Key; Supplier Part Number 6: IPD600N25N3 GDKR-ND; Packing: Reel; RthJC (max): 1.1 K/W; Mounting Technology: Surface Mount; ComponentLink1Description: Manufacturer URL; ComponentLink1URL: http://www.infineon.com/; ComponentLink2Description: Datasheet; ComponentLink2URL: http://www.infineon.com/dgdl/IPD600N25N3+G+Rev2.3.pdf?folderId=db3a3043163797a6011637d4bae7003b&fileId=db3a3043243b5f17012496b03c67195b; ComponentLink3Description: Package Specification; ComponentLink3URL: http://www.infineon.com/dgdl/IPD160N04L_rev1.0.pdf?folderId=db3a3043163797a6011643468e7505a4&fileId=db3a3043163797a60116436401cf05cf
footprint INF-PG-TO252-3-11_A_N (DPAK, 3-Leads, Body 6.57x6.1mm, Pitch 2.29mm, IPC Medium Density)
footprint INF-PG-TO252-3-11_A_L (DPAK, 3-Leads, Body 6.57x6.1mm, Pitch 2.29mm, IPC High Density)
footprint INF-PG-TO252-3-11_A_M (DPAK, 3-Leads, Body 6.57x6.1mm, Pitch 2.29mm, IPC Low Density)
pins: 1 GATE, 2 DRAIN, 3 SOURCE

## IPD640N06L G
designator Q?
N-Channel OptiMOS Power-Transistor, 60 V VDS, 18 A ID, -55 to 175 degC, PG-TO252-3-11, Reel, Green; Manufacturer: Infineon; PartNumber: IPD640N06L G; Green: TRUE; ID (max): 18 A; IDpuls (max): 72 A; Polarity: N; Ptot (max): 47 W; QG: 10 nC; RDS (on) (max): 64 mOhm; RDS (on) (max) (@4.5V): 85 mOhm; Rth: 3.2 K/W; RthJA (max): 75 K/W; VDS (max): 60 V; VGS(th) (max): 2 V; VGS(th) (min): 1.2 V; DatasheetVersion: Rev. 1.4; PackageVersion: Rev. 02, 03/2007; PackageReference: PG-TO252-3-11; PackageDescription: 3-Pin Plastic (Green) Transistor Single Outline Package, 6.57 x 6.1 mm Body, 2.29 mm Pitch; Supplier 1: Mouser; Supplier Part Number 1: 726-IPD640N06LG; Supplier 2: Newark; Supplier Part Number 2: 47W3475; Supplier 3: Farnell; Supplier Part Number 3: 2212871; Supplier 4: Digi-Key; Supplier Part Number 4: IPD640N06LGINTR-ND; Supplier 5: Digi-Key; Supplier Part Number 5: IPD640N06LGINCT-ND; Supplier 6: Digi-Key; Supplier Part Number 6: IPD640N06LGINDKR-ND; Packing: Reel; RthJC (max): 3.2 K/W; Mounting Technology: Surface Mount; ComponentLink1Description: Manufacturer URL; ComponentLink1URL: http://www.infineon.com/; ComponentLink2Description: Datasheet; ComponentLink2URL: http://www.infineon.com/dgdl/IPD640N06L%2BG%2BRev1.4.pdf?folderId=db3a30431ddc9372011ebafa04517f8b&fileId=db3a30431f848401011fcafb4ac00440; ComponentLink3Description: Package Specification; ComponentLink3URL: http://www.infineon.com/dgdl/IPD160N04L_rev1.0.pdf?folderId=db3a3043163797a6011643468e7505a4&fileId=db3a3043163797a60116436401cf05cf
footprint INF-PG-TO252-3-11_A_N (DPAK, 3-Leads, Body 6.57x6.1mm, Pitch 2.29mm, IPC Medium Density)
footprint INF-PG-TO252-3-11_A_L (DPAK, 3-Leads, Body 6.57x6.1mm, Pitch 2.29mm, IPC High Density)
footprint INF-PG-TO252-3-11_A_M (DPAK, 3-Leads, Body 6.57x6.1mm, Pitch 2.29mm, IPC Low Density)
pins: 1 GATE, 2 DRAIN, 3 SOURCE

## IPD800N06N G
designator Q?
N-Channel OptiMOS Power-Transistor, 60 V VDS, 16 A ID, -55 to 175 degC, PG-TO252-3-11, Reel, Green; Manufacturer: Infineon; PartNumber: IPD800N06N G; Green: TRUE; ID (max): 16 A; IDpuls (max): 64 A; Polarity: N; Ptot (max): 47 W; QG: 7 nC; RDS (on) (max): 80 mOhm; Rth: 3.2 K/W; RthJA (max): 75 K/W; VDS (max): 60 V; VGS(th) (max): 4 V; VGS(th) (min): 2.1 V; DatasheetVersion: Rev. 1.3; PackageVersion: Rev. 02, 03/2007; PackageReference: PG-TO252-3-11; PackageDescription: 3-Pin Plastic (Green) Transistor Single Outline Package, 6.57 x 6.1 mm Body, 2.29 mm Pitch; Supplier 1: Digi-Key; Supplier Part Number 1: IPD800N06NGINTR-ND; Supplier 2: Digi-Key; Supplier Part Number 2: IPD800N06NGINCT-ND; Supplier 3: Digi-Key; Supplier Part Number 3: IPD800N06NGINDKR-ND; Packing: Reel; RthJC (max): 3.2 K/W; Mounting Technology: Surface Mount; ComponentLink1Description: Manufacturer URL; ComponentLink1URL: http://www.infineon.com/; ComponentLink2Description: Datasheet; ComponentLink2URL: http://www.infineon.com/dgdl/IPD800N06N%2BG%2BRev1.3.pdf?folderId=db3a30431ddc9372011ebafa04517f8b&fileId=db3a30431f848401011fcaff7887044f; ComponentLink3Description: Package Specification; ComponentLink3URL: http://www.infineon.com/dgdl/IPD160N04L_rev1.0.pdf?folderId=db3a3043163797a6011643468e7505a4&fileId=db3a3043163797a60116436401cf05cf
footprint INF-PG-TO252-3-11_A_N (DPAK, 3-Leads, Body 6.57x6.1mm, Pitch 2.29mm, IPC Medium Density)
footprint INF-PG-TO252-3-11_A_L (DPAK, 3-Leads, Body 6.57x6.1mm, Pitch 2.29mm, IPC High Density)
footprint INF-PG-TO252-3-11_A_M (DPAK, 3-Leads, Body 6.57x6.1mm, Pitch 2.29mm, IPC Low Density)
pins: 1 GATE, 2 DRAIN, 3 SOURCE

## IPG16N10S4-61
designator Q?
OptiMOS-T2 Power-Transistor, 100 V VDS, 16 A ID, PG-TDSON-8-4, Reel, Green; Manufacturer: Infineon; PartNumber: IPG16N10S4-61; Green: TRUE; ID (max): 16 A; IDpuls (max): 64 A; Ptot (max): 29 W; QG: 5.4 nC; RDS (on) (max) (@10V): 61 mOhm; RthJC (max): 5.2 K/W; VDS (max): 100 V; VGS(th) (max): 3.5 V; VGS(th) (min): 2 V; DatasheetVersion: Rev. 1.0; PackageVersion: V03; PackageReference: PG-TDSON-8-4; PackageDescription: 8-Pin Plastic (Green) Thin Dual Small Outline Non Leaded Package, 5.15 x 5.9 mm Body, 1.27 mm Pitch; Halogen-free: TRUE; Packing: Reel; Technology: OptiMOS-T2; Mounting Technology: Surface Mount; ComponentLink1Description: Manufacturer URL; ComponentLink1URL: http://www.infineon.com/; ComponentLink2Description: Datasheet; ComponentLink2URL: http://www.infineon.com/dgdl/IPG16N10S4-61_DS_1_0.pdf?folderId=db3a3043156fd5730115c7d50620107c&fileId=db3a3043372d5cc8013750d9e3eb0604&location=en.Products.Automotive_ICs.Automotive_MOSFETs.Dual__N-Channel_100V_MOSFETs.DATASHEET.IPG16N10S4-61_DS_1_0.pdf; ComponentLink3Description: Package Specification; ComponentLink3URL: http://www.infineon.com/cms/packages/SMD_-_Surface_Mounted_Devices/P-PG-TDSON/P-PG-TDSON-08-04.html?__locale=en
footprint INF-PG-TDSON-8-4_V (SON, 8-Leads, Body 5.9x5.15mm, Pitch 1.27mm)
part A pins: 1 SOURCE, 2 GATE, 7 DRAIN, 8 DRAIN
part B pins: 3 SOURCE, 4 GATE, 5 DRAIN, 6 DRAIN
part A text: 7, 8
part B text: 5, 6

## IPG20N04S4-08
designator Q?
OptiMOS-T2 Power-Transistor, 40 V VDS, 20 A ID, PG-TDSON-8-4, Reel, Green; Manufacturer: Infineon; PartNumber: IPG20N04S4-08; Green: TRUE; ID (max): 20 A; IDpuls (max): 80 A; Ptot (max): 65 W; QG: 28 nC; RDS (on) (max) (@10V): 7.6 mOhm; RthJC (max): 2.3 K/W; VDS (max): 40 V; VGS(th) (max): 4 V; VGS(th) (min): 2 V; DatasheetVersion: Rev. 1.0; PackageVersion: V03; PackageReference: PG-TDSON-8-4; PackageDescription: 8-Pin Plastic (Green) Thin Dual Small Outline Non Leaded Package, 5.15 x 5.9 mm Body, 1.27 mm Pitch; Supplier 1: Mouser; Supplier Part Number 1: 726-IPG20N04S4-08; Halogen-free: TRUE; Packing: Reel; Technology: OptiMOS-T2; Mounting Technology: Surface Mount; ComponentLink1Description: Manufacturer URL; ComponentLink1URL: http://www.infineon.com/; ComponentLink2Description: Datasheet; ComponentLink2URL: http://www.infineon.com/dgdl/IPG20N04S4-08_DS_1_0.pdf?folderId=db3a3043156fd5730115c7d50620107c&fileId=db3a30432ba3fa6f012bbf5de5da6bfb&location=en.Products.Automotive_ICs.Automotive_MOSFETs.Dual__N-Channel_40V_MOSFETs.DATASHEET.IPG20N04S4-08_DS_1_0.pdf; ComponentLink3Description: Package Specification; ComponentLink3URL: http://www.infineon.com/cms/packages/SMD_-_Surface_Mounted_Devices/P-PG-TDSON/P-PG-TDSON-08-04.html?__locale=en
footprint INF-PG-TDSON-8-4_V (SON, 8-Leads, Body 5.9x5.15mm, Pitch 1.27mm)
part A pins: 1 SOURCE, 2 GATE, 7 DRAIN, 8 DRAIN
part B pins: 3 SOURCE, 4 GATE, 5 DRAIN, 6 DRAIN
part A text: 7, 8
part B text: 5, 6

## IPG20N04S4-08A
designator Q?
OptiMOS-T2 Power-Transistor, 40 V VDS, 20 A ID, PG-TDSON-8-10, Reel, Green; Manufacturer: Infineon; PartNumber: IPG20N04S4-08A; Green: TRUE; ID (max): 20 A; IDpuls (max): 80 A; Ptot (max): 65 W; QG: 28 nC; RDS (on) (max) (@10V): 7.6 mOhm; RthJC (max): 2.3 K/W; VDS (max): 40 V; VGS(th) (max): 4 V; VGS(th) (min): 2 V; DatasheetVersion: Rev. 1.0; PackageVersion: V03; PackageReference: PG-TDSON-8-10; PackageDescription: 8-Pin Plastic (Green) Thin Dual Small Outline Non Leaded Package, 5.15 x 5.9 mm Body, 1.27 mm Pitch; Halogen-free: TRUE; Packing: Reel; Technology: OptiMOS-T2; Mounting Technology: Surface Mount; ComponentLink1Description: Manufacturer URL; ComponentLink1URL: http://www.infineon.com/; ComponentLink2Description: Datasheet; ComponentLink2URL: http://www.infineon.com/dgdl/IPG20N04S4-08A_DS_1_0.pdf?folderId=db3a3043156fd5730115c7d50620107c&fileId=db3a30433d346a2d013d4547b3355142&location=en.Products.Automotive_ICs.Automotive_MOSFETs.Dual__N-Channel_40V_MOSFETs.DATASHEET.IPG20N04S4-08A_DS_1_0.pdf; ComponentLink3Description: Package Specification; ComponentLink3URL: http://www.infineon.com/cms/packages/SMD_-_Surface_Mounted_Devices/P-PG-TDSON/P-PG-TDSON-08-10.html?__locale=en
footprint INF-PG-TDSON-8-10_V (SON, 8-Leads, Body 5.9x5.15mm, Pitch 1.27mm)
part A pins: 1 SOURCE, 2 GATE, 7 DRAIN, 8 DRAIN
part B pins: 3 SOURCE, 4 GATE, 5 DRAIN, 6 DRAIN
part A text: 7, 8
part B text: 5, 6

## IPG20N04S4-09
designator Q?
OptiMOS-T2 Power-Transistor, 40 V VDS, 20 A ID, PG-TDSON-8-4, Reel, Green; Manufacturer: Infineon; PartNumber: IPG20N04S4-09; Green: TRUE; ID (max): 20 A; IDpuls (max): 80 A; Ptot (max): 54 W; QG: 21.7 nC; RDS (on) (max) (@10V): 8.6 mOhm; RthJC (max): 2.8 K/W; VDS (max): 40 V; VGS(th) (max): 4 V; VGS(th) (min): 2 V; DatasheetVersion: Rev. 1.0; PackageVersion: V03; PackageReference: PG-TDSON-8-4; PackageDescription: 8-Pin Plastic (Green) Thin Dual Small Outline Non Leaded Package, 5.15 x 5.9 mm Body, 1.27 mm Pitch; Supplier 1: Mouser; Supplier Part Number 1: 726-IPG20N04S4-09; Halogen-free: TRUE; Packing: Reel; Technology: OptiMOS-T2; Mounting Technology: Surface Mount; ComponentLink1Description: Manufacturer URL; ComponentLink1URL: http://www.infineon.com/; ComponentLink2Description: Datasheet; ComponentLink2URL: http://www.infineon.com/dgdl/IPG20N04S4-09_DS_1_0.pdf?folderId=db3a3043156fd5730115c7d50620107c&fileId=db3a30432ba3fa6f012bbf5f9f126c00&location=en.Products.Automotive_ICs.Automotive_MOSFETs.Dual__N-Channel_40V_MOSFETs.DATASHEET.IPG20N04S4-09_DS_1_0.pdf; ComponentLink3Description: Package Specification; ComponentLink3URL: http://www.infineon.com/cms/packages/SMD_-_Surface_Mounted_Devices/P-PG-TDSON/P-PG-TDSON-08-04.html?__locale=en
footprint INF-PG-TDSON-8-4_V (SON, 8-Leads, Body 5.9x5.15mm, Pitch 1.27mm)
part A pins: 1 SOURCE, 2 GATE, 7 DRAIN, 8 DRAIN
part B pins: 3 SOURCE, 4 GATE, 5 DRAIN, 6 DRAIN
part A text: 7, 8
part B text: 5, 6

## IPG20N04S4-12
designator Q?
OptiMOS-T2 Power-Transistor, 40 V VDS, 20 A ID, PG-TDSON-8-4, Reel, Green; Manufacturer: Infineon; PartNumber: IPG20N04S4-12; Green: TRUE; ID (max): 20 A; IDpuls (max): 80 A; Ptot (max): 41 W; QG: 14 nC; RDS (on) (max) (@10V): 12.2 mOhm; RthJC (max): 3.7 K/W; VDS (max): 40 V; VGS(th) (max): 4 V; VGS(th) (min): 2 V; DatasheetVersion: Rev. 1.0; PackageVersion: V03; PackageReference: PG-TDSON-8-4; PackageDescription: 8-Pin Plastic (Green) Thin Dual Small Outline Non Leaded Package, 5.15 x 5.9 mm Body, 1.27 mm Pitch; Supplier 1: Mouser; Supplier Part Number 1: 726-IPG20N04S4-12; Halogen-free: TRUE; Packing: Reel; Technology: OptiMOS-T2; Mounting Technology: Surface Mount; ComponentLink1Description: Manufacturer URL; ComponentLink1URL: http://www.infineon.com/; ComponentLink2Description: Datasheet; ComponentLink2URL: http://www.infineon.com/dgdl/IPG20N04S4-12_DS_1_0.pdf?folderId=db3a3043156fd5730115c7d50620107c&fileId=db3a30432ba3fa6f012bbf60c03c6c05&location=en.Products.Automotive_ICs.Automotive_MOSFETs.Dual__N-Channel_40V_MOSFETs.DATASHEET.IPG20N04S4-12_DS_1_0.pdf; ComponentLink3Description: Package Specification; ComponentLink3URL: http://www.infineon.com/cms/packages/SMD_-_Surface_Mounted_Devices/P-PG-TDSON/P-PG-TDSON-08-04.html?__locale=en
footprint INF-PG-TDSON-8-4_V (SON, 8-Leads, Body 5.9x5.15mm, Pitch 1.27mm)
part A pins: 1 SOURCE, 2 GATE, 7 DRAIN, 8 DRAIN
part B pins: 3 SOURCE, 4 GATE, 5 DRAIN, 6 DRAIN
part A text: 7, 8
part B text: 5, 6

## IPG20N04S4-12A
designator Q?
OptiMOS-T2 Power-Transistor, 40 V VDS, 20 A ID, PG-TDSON-8-10, Reel, Green; Manufacturer: Infineon; PartNumber: IPG20N04S4-12A; Green: TRUE; ID (max): 20 A; IDpuls (max): 80 A; Ptot (max): 41 W; QG: 14 nC; RDS (on) (max) (@10V): 12.2 mOhm; RthJC (max): 3.7 K/W; VDS (max): 40 V; VGS(th) (max): 4 V; VGS(th) (min): 2 V; DatasheetVersion: Rev. 1.0; PackageVersion: V03; PackageReference: PG-TDSON-8-10; PackageDescription: 8-Pin Plastic (Green) Thin Dual Small Outline Non Leaded Package, 5.15 x 5.9 mm Body, 1.27 mm Pitch; Halogen-free: TRUE; Packing: Reel; Technology: OptiMOS-T2; Mounting Technology: Surface Mount; ComponentLink1Description: Manufacturer URL; ComponentLink1URL: http://www.infineon.com/; ComponentLink2Description: Datasheet; ComponentLink2URL: http://www.infineon.com/dgdl/IPG20N04S4-12A_DS_1_0.pdf?folderId=db3a3043156fd5730115c7d50620107c&fileId=db3a30433d346a2d013d45445dfa5128&location=en.Products.Automotive_ICs.Automotive_MOSFETs.Dual__N-Channel_40V_MOSFETs.DATASHEET.IPG20N04S4-12A_DS_1_0.pdf; ComponentLink3Description: Package Specification; ComponentLink3URL: http://www.infineon.com/cms/packages/SMD_-_Surface_Mounted_Devices/P-PG-TDSON/P-PG-TDSON-08-10.html?__locale=en
footprint INF-PG-TDSON-8-10_V (SON, 8-Leads, Body 5.9x5.15mm, Pitch 1.27mm)
part A pins: 1 SOURCE, 2 GATE, 7 DRAIN, 8 DRAIN
part B pins: 3 SOURCE, 4 GATE, 5 DRAIN, 6 DRAIN
part A text: 7, 8
part B text: 5, 6

## IPG20N04S4L-07
designator Q?
OptiMOS-T2 Power-Transistor, 40 V VDS, 20 A ID, PG-TDSON-8-4, Reel, Green; Manufacturer: Infineon; PartNumber: IPG20N04S4L-07; Green: TRUE; ID (max): 20 A; IDpuls (max): 80 A; Ptot (max): 65 W; QG: 39 nC; RDS (on) (max) (@10V): 7.2 mOhm; RDS (on) (max) (@4.5V): 9.2 mOhm; RthJC (max): 2.3 K/W; VDS (max): 40 V; VGS(th) (max): 2.2 V; VGS(th) (min): 1.2 V; DatasheetVersion: Rev. 1.0; PackageVersion: V03; PackageReference: PG-TDSON-8-4; PackageDescription: 8-Pin Plastic (Green) Thin Dual Small Outline Non Leaded Package, 5.15 x 5.9 mm Body, 1.27 mm Pitch; Supplier 1: Mouser; Supplier Part Number 1: 726-IPG20N04S4L-07; Halogen-free: TRUE; Packing: Reel; Technology: OptiMOS-T2; Mounting Technology: Surface Mount; ComponentLink1Description: Manufacturer URL; ComponentLink1URL: http://www.infineon.com/; ComponentLink2Description: Datasheet; ComponentLink2URL: http://www.infineon.com/dgdl/IPG20N04S4L-07_DS_1_0.pdf?folderId=db3a3043156fd5730115c7d50620107c&fileId=db3a30432ba3fa6f012bbf622fcf6c0a&location=en.Products.Automotive_ICs.Automotive_MOSFETs.Dual__N-Channel_40V_MOSFETs.DATASHEET.IPG20N04S4L-07_DS_1_0.pdf; ComponentLink3Description: Package Specification; ComponentLink3URL: http://www.infineon.com/cms/packages/SMD_-_Surface_Mounted_Devices/P-PG-TDSON/P-PG-TDSON-08-04.html?__locale=en
footprint INF-PG-TDSON-8-4_V (SON, 8-Leads, Body 5.9x5.15mm, Pitch 1.27mm)
part A pins: 1 SOURCE, 2 GATE, 7 DRAIN, 8 DRAIN
part B pins: 3 SOURCE, 4 GATE, 5 DRAIN, 6 DRAIN
part A text: 7, 8
part B text: 5, 6

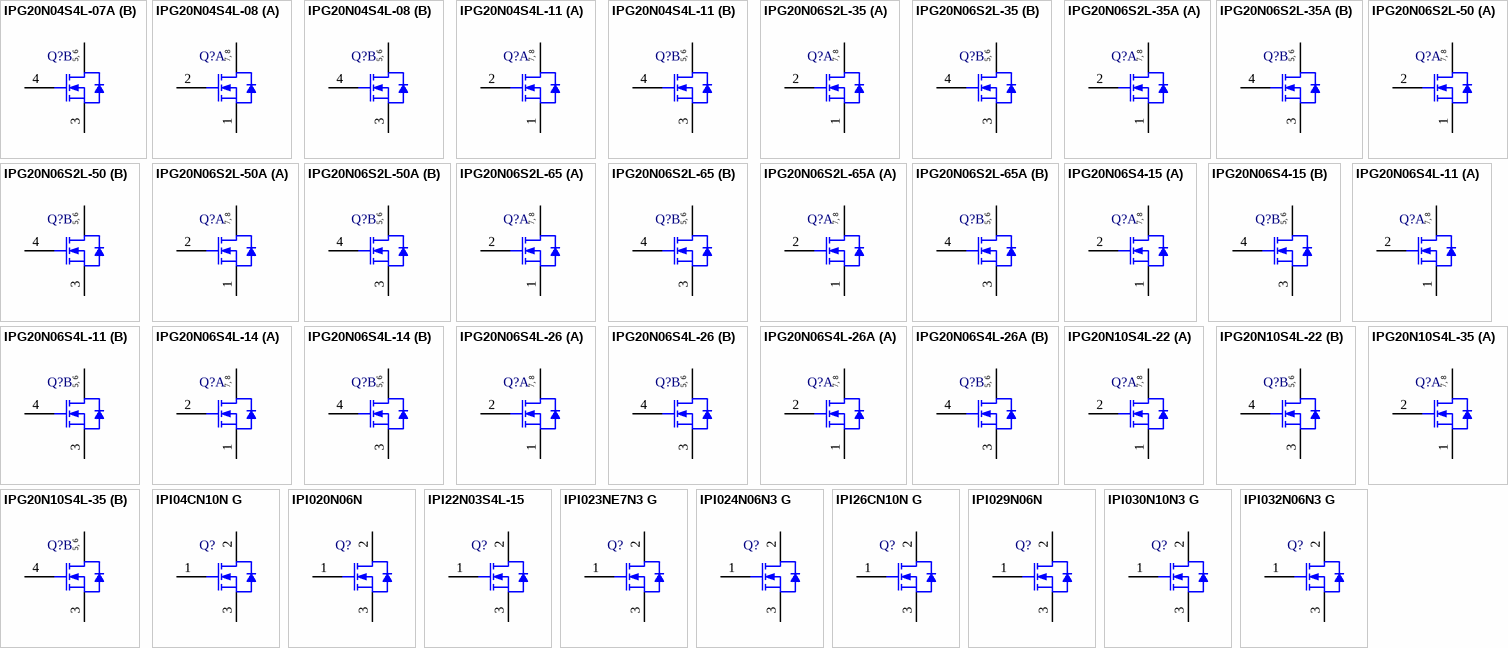
[diagram p21: symbols IPG20N04S4L-07A to IPI032N06N3 G]

## IPG20N04S4L-07A
designator Q?
OptiMOS-T2 Power-Transistor, 40 V VDS, 20 A ID, PG-TDSON-8-10, Reel, Green; Manufacturer: Infineon; PartNumber: IPG20N04S4L-07A; Green: TRUE; ID (max): 20 A; IDpuls (max): 80 A; Ptot (max): 65 W; QG: 39 nC; RDS (on) (max) (@10V): 7.2 mOhm; RDS (on) (max) (@4.5V): 9.2 mOhm; RthJC (max): 2.3 K/W; VDS (max): 40 V; VGS(th) (max): 2.2 V; VGS(th) (min): 1.2 V; DatasheetVersion: Rev. 1.0; PackageVersion: V03; PackageReference: PG-TDSON-8-10; PackageDescription: 8-Pin Plastic (Green) Thin Dual Small Outline Non Leaded Package, 5.15 x 5.9 mm Body, 1.27 mm Pitch; Supplier 1: Mouser; Supplier Part Number 1: N/A; Halogen-free: TRUE; Packing: Reel; Technology: OptiMOS-T2; Mounting Technology: Surface Mount; ComponentLink1Description: Manufacturer URL; ComponentLink1URL: http://www.infineon.com/; ComponentLink2Description: Datasheet; ComponentLink2URL: http://www.infineon.com/dgdl/IPG20N04S4L-07A_DS_1_0.pdf?folderId=db3a3043156fd5730115c7d50620107c&fileId=db3a30433d346a2d013d454a0c9d515c&location=en.Products.Automotive_ICs.Automotive_MOSFETs.Dual__N-Channel_40V_MOSFETs.DATASHEET.IPG20N04S4L-07A_DS_1_0.pdf; ComponentLink3Description: Package Specification; ComponentLink3URL: http://www.infineon.com/cms/packages/SMD_-_Surface_Mounted_Devices/P-PG-TDSON/P-PG-TDSON-08-10.html?__locale=en
footprint INF-PG-TDSON-8-10_V (SON, 8-Leads, Body 5.9x5.15mm, Pitch 1.27mm)
part A pins: 1 SOURCE, 2 GATE, 7 DRAIN, 8 DRAIN
part B pins: 3 SOURCE, 4 GATE, 5 DRAIN, 6 DRAIN
part A text: 7, 8
part B text: 5, 6

## IPG20N04S4L-08
designator Q?
OptiMOS-T2 Power-Transistor, 40 V VDS, 20 A ID, PG-TDSON-8-4, Reel, Green; Manufacturer: Infineon; PartNumber: IPG20N04S4L-08; Green: TRUE; ID (max): 20 A; IDpuls (max): 80 A; Ptot (max): 54 W; QG: 30 nC; RDS (on) (max) (@10V): 8.2 mOhm; RDS (on) (max) (@4.5V): 10.9 mOhm; RthJC (max): 2.8 K/W; VDS (max): 40 V; VGS(th) (max): 2.2 V; VGS(th) (min): 1.2 V; DatasheetVersion: Rev. 1.0; PackageVersion: V03; PackageReference: PG-TDSON-8-4; PackageDescription: 8-Pin Plastic (Green) Thin Dual Small Outline Non Leaded Package, 5.15 x 5.9 mm Body, 1.27 mm Pitch; Supplier 1: Mouser; Supplier Part Number 1: 726-IPG20N04S4L-08; Halogen-free: TRUE; Packing: Reel; Technology: OptiMOS-T2; Mounting Technology: Surface Mount; ComponentLink1Description: Manufacturer URL; ComponentLink1URL: http://www.infineon.com/; ComponentLink2Description: Datasheet; ComponentLink2URL: http://www.infineon.com/dgdl/IPG20N04S4L-08_DS_1_0.pdf?folderId=db3a3043156fd5730115c7d50620107c&fileId=db3a30432ba3fa6f012bbf634e6f6c0f&location=en.Products.Automotive_ICs.Automotive_MOSFETs.Dual__N-Channel_40V_MOSFETs.DATASHEET.IPG20N04S4L-08_DS_1_0.pdf; ComponentLink3Description: Package Specification; ComponentLink3URL: http://www.infineon.com/cms/packages/SMD_-_Surface_Mounted_Devices/P-PG-TDSON/P-PG-TDSON-08-04.html?__locale=en
footprint INF-PG-TDSON-8-4_V (SON, 8-Leads, Body 5.9x5.15mm, Pitch 1.27mm)
part A pins: 1 SOURCE, 2 GATE, 7 DRAIN, 8 DRAIN
part B pins: 3 SOURCE, 4 GATE, 5 DRAIN, 6 DRAIN
part A text: 7, 8
part B text: 5, 6